# EAGLE library part XMC1000-64 (library INF-XMC)
XMC1000 series 64 pin QFP/QFN 39 digital (+4 crystals) 14 analog
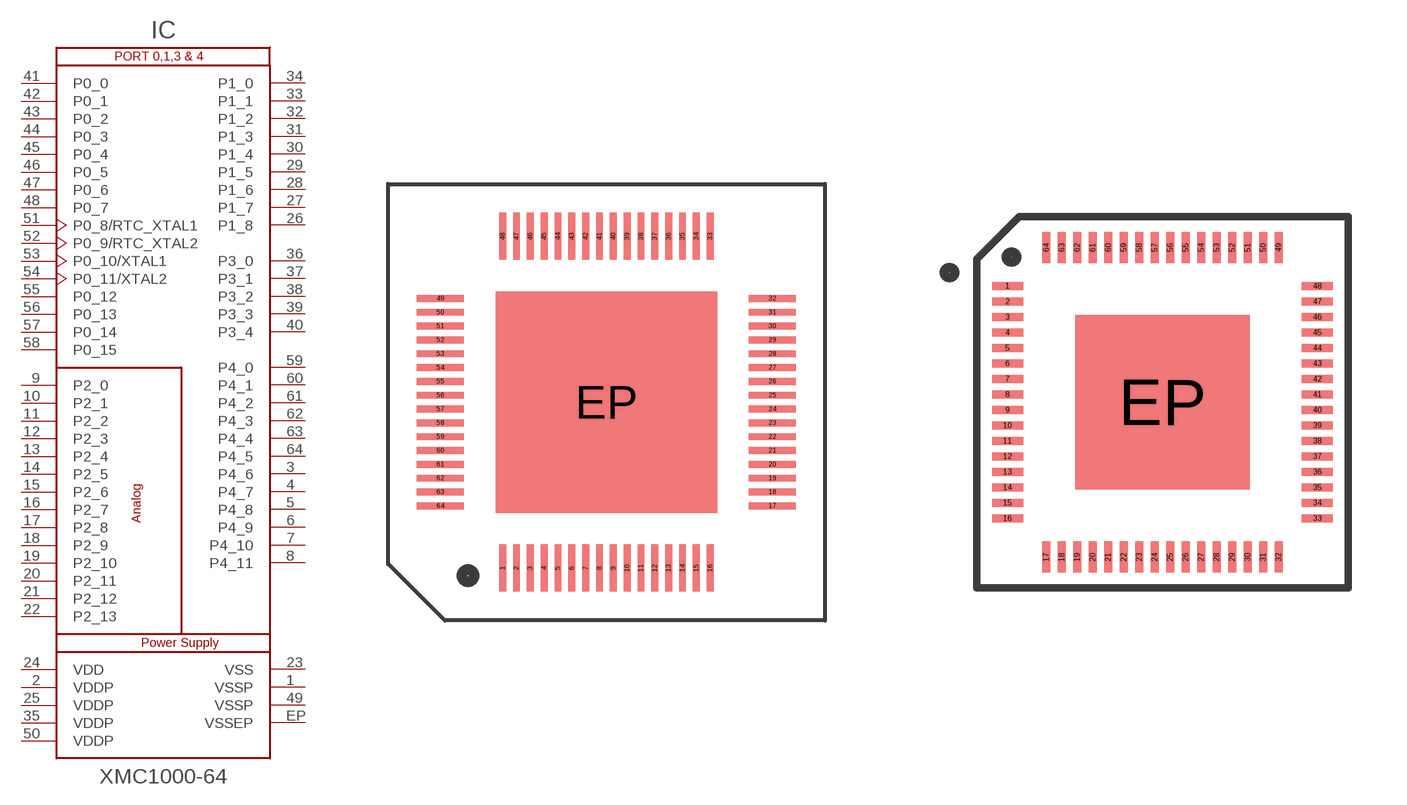
[diagram p10: symbol with the pads of QFP-64-12X12; footprints QFP-64-12X12, QFN-64-8X8]

Designator prefix IC

## XMC1000-64QFP  [QFP-64-12X12]
1  VSSP  pwr
2  VDDP  pwr
3  P4_6
4  P4_7
5  P4_8
6  P4_9
7  P4_10
8  P4_11
9  P2_0
10  P2_1
11  P2_2  in
12  P2_3  in
13  P2_4  in
14  P2_5  in
15  P2_6  in
16  P2_7  in
17  P2_8  in
18  P2_9  in
19  P2_10
20  P2_11
21  P2_12
22  P2_13
23  VSS  pwr
24  VDD  pwr
25  VDDP  pwr
26  P1_8
27  P1_7
28  P1_6
29  P1_5
30  P1_4
31  P1_3
32  P1_2
33  P1_1
34  P1_0
35  VDDP  pwr
36  P3_0
37  P3_1
38  P3_2
39  P3_3
40  P3_4
41  P0_0
42  P0_1
43  P0_2
44  P0_3
45  P0_4
46  P0_5
47  P0_6
48  P0_7
49  VSSP  pwr
50  VDDP  pwr
51  P0_8/RTC_XTAL1
52  P0_9/RTC_XTAL2
53  P0_10/XTAL1
54  P0_11/XTAL2
55  P0_12
56  P0_13
57  P0_14
58  P0_15
59  P4_0
60  P4_1
61  P4_2
62  P4_3
63  P4_4
64  P4_5
EP  VSSEP  pwr

## XMC1000-64QFN  [QFN-64-8X8]
Pads as for QFP-64-12X12

## Footprint QFP-64-12X12 (pad centres in mm)
TQFP64 12x12mm 0.5mm pitch 0.25mm pad width
smd 0.25 x 1.7: 1 -3.75,-6; 2 -3.25,-6; 3 -2.75,-6; 4 -2.25,-6; 5 -1.75,-6; 6 -1.25,-6; 7 -0.75,-6; 8 -0.25,-6; 9 0.25,-6; 10 0.75,-6; 11 1.25,-6; 12 1.75,-6; 13 2.25,-6; 14 2.75,-6; 15 3.25,-6; 16 3.75,-6; 33 3.75,6; 34 3.25,6; 35 2.75,6; 36 2.25,6; 37 1.75,6; 38 1.25,6; 39 0.75,6; 40 0.25,6; 41 -0.25,6; 42 -0.75,6; 43 -1.25,6; 44 -1.75,6; 45 -2.25,6; 46 -2.75,6; 47 -3.25,6; 48 -3.75,6
smd 1.7 x 0.25: 17 6,-3.75; 18 6,-3.25; 19 6,-2.75; 20 6,-2.25; 21 6,-1.75; 22 6,-1.25; 23 6,-0.75; 24 6,-0.25; 25 6,0.25; 26 6,0.75; 27 6,1.25; 28 6,1.75; 29 6,2.25; 30 6,2.75; 31 6,3.25; 32 6,3.75; 49 -6,3.75; 50 -6,3.25; 51 -6,2.75; 52 -6,2.25; 53 -6,1.75; 54 -6,1.25; 55 -6,0.75; 56 -6,0.25; 57 -6,-0.25; 58 -6,-0.75; 59 -6,-1.25; 60 -6,-1.75; 61 -6,-2.25; 62 -6,-2.75; 63 -6,-3.25; 64 -6,-3.75
smd 8 x 8: EP 0,0

## Footprint QFN-64-8X8 (pad centres in mm)
QFN 64 pin 8 x 8 body - 0.4 pitch 0.8 x 0.2 pad
smd 0.8 x 0.2: 1 -4,3; 2 -4,2.6; 3 -4,2.2; 4 -4,1.8; 5 -4,1.4; 6 -4,1; 7 -4,0.6; 8 -4,0.2; 9 -4,-0.2; 10 -4,-0.6; 11 -4,-1; 12 -4,-1.4; 13 -4,-1.8; 14 -4,-2.2; 15 -4,-2.6; 16 -4,-3; 33 4,-3; 34 4,-2.6; 35 4,-2.2; 36 4,-1.8; 37 4,-1.4; 38 4,-1; 39 4,-0.6; 40 4,-0.2; 41 4,0.2; 42 4,0.6; 43 4,1; 44 4,1.4; 45 4,1.8; 46 4,2.2; 47 4,2.6; 48 4,3
smd 0.2 x 0.8: 17 -3,-4; 18 -2.6,-4; 19 -2.2,-4; 20 -1.8,-4; 21 -1.4,-4; 22 -1,-4; 23 -0.6,-4; 24 -0.2,-4; 25 0.2,-4; 26 0.6,-4; 27 1,-4; 28 1.4,-4; 29 1.8,-4; 30 2.2,-4; 31 2.6,-4; 32 3,-4; 49 3,4; 50 2.6,4; 51 2.2,4; 52 1.8,4; 53 1.4,4; 54 1,4; 55 0.6,4; 56 0.2,4; 57 -0.2,4; 58 -0.6,4; 59 -1,4; 60 -1.4,4; 61 -1.8,4; 62 -2.2,4; 63 -2.6,4; 64 -3,4
smd 4.5 x 4.5: EP 0,0